# Altium footprint library TANTALUM_B.PcbLib: 1 footprints
Each footprint in its own frame and in the unit in brackets; x right, y up, seen from the top. Pads: shape width x height; smd on the part's side, far side on the other; paste and mask are expansions set on the pad; w line width, h text height; cw(c..) or ccw(c..) is an arc to the next point about the centre after c.
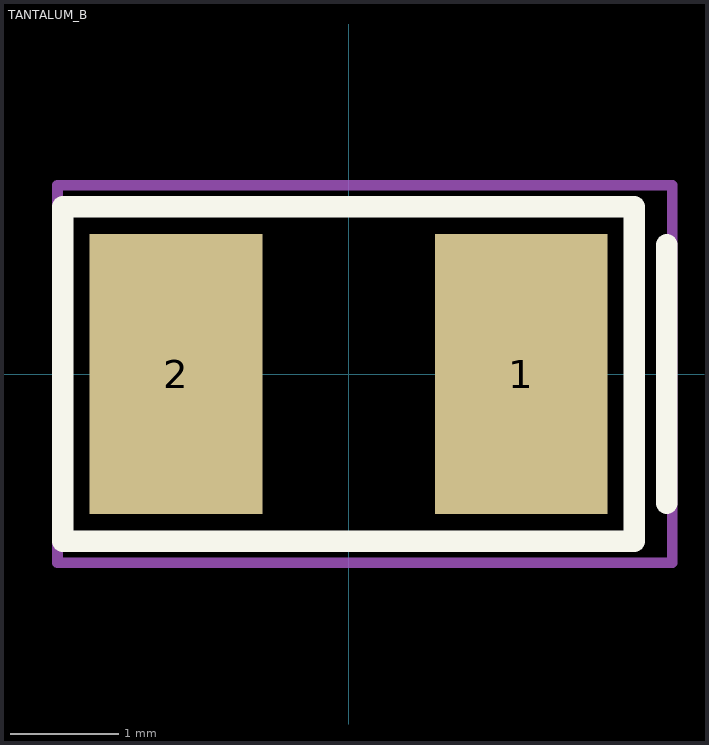
[diagram p0: the footprint, top view; thin cyan lines are the x and y axes]

## TANTALUM_B [mm]
pads (2):
  rect 1.6x2.6 smd: 1(1.6,0) 2(-1.6,0)
Top Overlay:
  lines w0.2: 2.95,-1.2 2.95,1.2 ; -2.65,-1.55 -2.65,1.55 2.65,1.55 2.65,-1.55 -2.65,-1.55
Top Courtyard:
  lines w0.1: -2.7,-1.75 3,-1.75 3,1.75 -2.7,1.75 -2.7,-1.75
3D body "T491B106M016AT.step": height 2.1, standoff 0, extent -1.85,-1.5 1.85,1.5